# EAGLE library part PIKIT2_PRG (library wifi_WX)
PIN HEADER
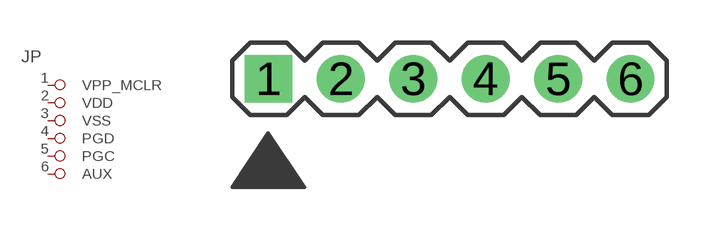
[diagram p5: symbol with the pads of 1X06_PIKIT; footprint 1X06_PIKIT]

Designator prefix JP

## PIKIT2_PRG  [1X06_PIKIT]
1  VPP_MCLR  pas
2  VDD  pas
3  VSS  pas
4  PGD  pas
5  PGC  pas
6  AUX  pas

## Footprint 1X06_PIKIT (pad centres in mm)
PIN HEADER
drill 0.9 pad 1.676 square: 1 -6.35,0
drill 0.9 pad 1.676: 2 -3.81,0; 3 -1.27,0; 4 1.27,0; 5 3.81,0; 6 6.35,0